# EAGLE library part V__VFD_SVA_8MS10S (library ++Bedrahtet)
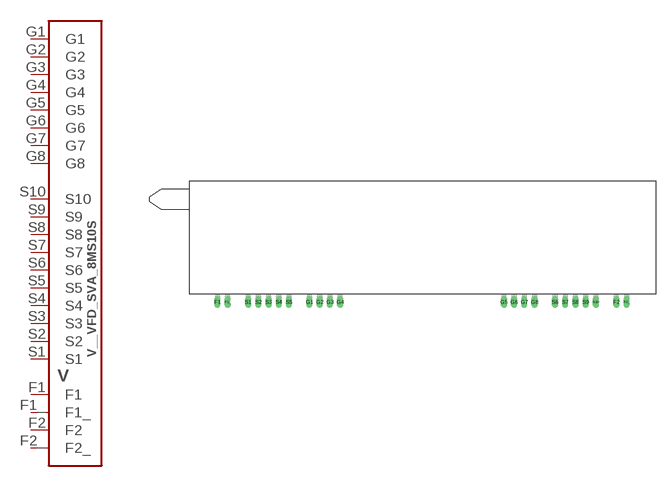
[diagram p54: symbol with the pads of VFD_SVA_8MS10S; footprint VFD_SVA_8MS10S]

Designator prefix V

## V__VFD_SVA_8MS10S  [VFD_SVA_8MS10S]
F1  F1
F1_  F1_
F2  F2
F2_  F2_
G1  G1
G2  G2
G3  G3
G4  G4
G5  G5
G6  G6
G7  G7
G8  G8
S1  S1
S2  S2
S3  S3
S4  S4
S5  S5
S6  S6
S7  S7
S8  S8
S9  S9
S10  S10

## Footprint VFD_SVA_8MS10S (pad centres in mm)
drill 1 long: F1 0,0; F1_ 2.54,0; F2 99.06,0; F2_ 101.6,0; G1 22.86,0; G2 25.4,0; G3 27.94,0; G4 30.48,0; G5 71.12,0; G6 73.66,0; G7 76.2,0; G8 78.74,0; S1 7.62,0; S2 10.16,0; S3 12.7,0; S4 15.24,0; S5 17.78,0; S6 83.82,0; S7 86.36,0; S8 88.9,0; S9 91.44,0; S10 93.98,0